# EAGLE library part CX20106 (library tofu)
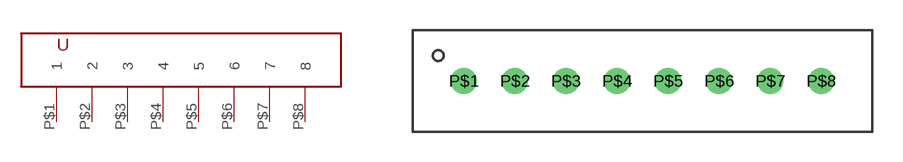
[diagram p6: symbol with the pads of CX20106; footprint CX20106]

Designator prefix -

## CX20106  [CX20106]
P$1  1
P$2  2
P$3  3
P$4  4
P$5  5
P$6  6
P$7  7
P$8  8

## Footprint CX20106 (pad centres in mm)
drill 0.8: P$1 -10.16,0; P$2 -7.62,0; P$3 -5.08,0; P$4 -2.54,0; P$5 0,0; P$6 2.54,0; P$7 5.08,0; P$8 7.62,0